# Altium footprint library PHD.PcbLib: 19 footprints (part 2 of 2)
Each footprint in its own frame and in the unit in brackets; x right, y up, seen from the top. Pads: shape width x height; smd on the part's side, far side on the other; paste and mask are expansions set on the pad; w line width, h text height; cw(c..) or ccw(c..) is an arc to the next point about the centre after c.
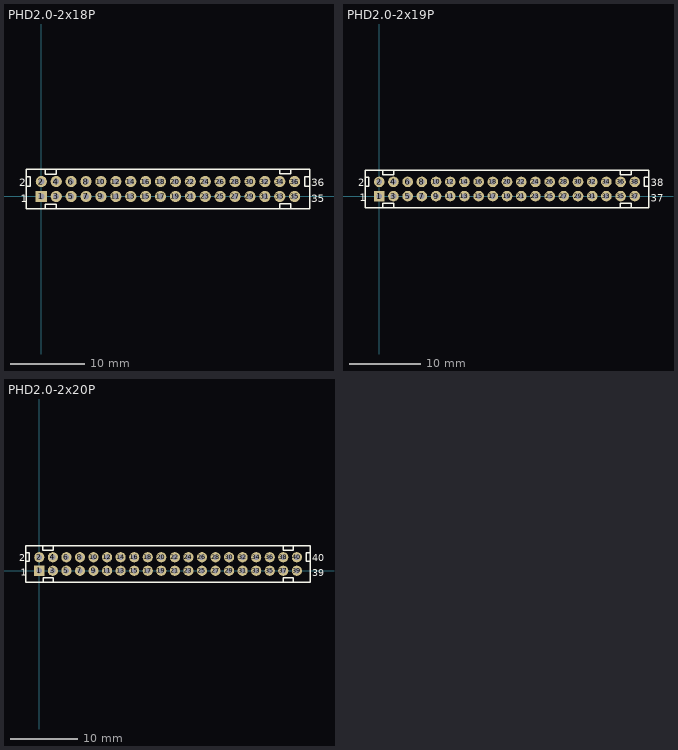
[diagram p1: the footprints below, top view; thin cyan lines are the x and y axes]

## PHD2.0-2x18P [mm]
pads (36):
  rect 1.5x1.5 hole 0.8: 1(0,0)
  round 1.5 hole 0.8: 2(0,2) 3(2,0) 4(2,2) 5(4,0) 6(4,2) 7(6,0) 8(6,2) 9(8,0) 10(8,2) 11(10,0) 12(10,2) 13(12,0) 14(12,2) 15(14,0) 16(14,2) 17(16,0) 18(16,2) 19(18,0) 20(18,2) 21(20,0) 22(20,2) 23(22,0) 24(22,2) 25(24,0) 26(24,2) 27(26,0) 28(26,2) 29(28,0) 30(28,2) 31(30,0) 32(30,2) 33(32,0) 34(32,2) 35(34,0) 36(34,2)
Top Overlay:
  lines w0.2: -2,1.381 -1.492,1.381 -1.492,2.651 -2,2.651 ; 0.5,-1.667 0.5,-1.032 2.024,-1.032 2.024,-1.667 ; 0.5,3.667 0.5,3 2.024,3 2.024,3.667 ; 31.976,-1.667 31.976,-1 33.5,-1 33.5,-1.667 ; 31.976,3.667 31.976,3.032 33.5,3.032 33.5,3.667 ; 36,1.381 35.365,1.381 35.365,2.651 36,2.651 ; -2,-1.667 36,-1.667 36,3.667 -2,3.667 -2,-1.667
  text "36" at 36.254,1.381 h1.02
  text "35" at 36.254,-0.778 h1.02
  text "1" at -2.75,-0.75 h1.02
  text "2" at -2.996,1.381 h1.02
Bottom Overlay:
  lines w0.381: -0.5,1 34.5,1 ; 1,-0.5 1,2.5 ; 3,-0.5 3,2.5 ; 5,-0.5 5,2.5 ; 7,-0.5 7,2.5 ; 9,-0.5 9,2.5 ; 11,-0.5 11,2.5 ; 13,-0.5 13,2.5 ; 15,-0.5 15,2.5 ; 17,-0.5 17,2.5 ; 19,-0.5 19,2.5 ; 21,-0.5 21,2.5 ; 23,-0.5 23,2.5 ; 25,-0.5 25,2.5 ; 27,-0.5 27,2.5 ; 29,-0.5 29,2.5 ; 31,-0.5 31,2.5 ; 33,-0.5 33,2.5
3D body "PHD2.0-LI-2x18P.STEP": height 6.55, standoff -2.75, extent -2,-1.5 36,3.5

## PHD2.0-2x19P [mm]
pads (38):
  rect 1.5x1.5 hole 0.8: 1(0,0)
  round 1.5 hole 0.8: 2(0,2) 3(2,0) 4(2,2) 5(4,0) 6(4,2) 7(6,0) 8(6,2) 9(8,0) 10(8,2) 11(10,0) 12(10,2) 13(12,0) 14(12,2) 15(14,0) 16(14,2) 17(16,0) 18(16,2) 19(18,0) 20(18,2) 21(20,0) 22(20,2) 23(22,0) 24(22,2) 25(24,0) 26(24,2) 27(26,0) 28(26,2) 29(28,0) 30(28,2) 31(30,0) 32(30,2) 33(32,0) 34(32,2) 35(34,0) 36(34,2) 37(36,0) 38(36,2)
Top Overlay:
  lines w0.2: -2,1.381 -1.492,1.381 -1.492,2.651 -2,2.651 ; 0.5,-1.667 0.5,-1.032 2.024,-1.032 2.024,-1.667 ; 0.5,3.667 0.5,3 2.024,3 2.024,3.667 ; 33.976,-1.667 33.976,-1 35.5,-1 35.5,-1.667 ; 33.976,3.667 33.976,3.032 35.5,3.032 35.5,3.667 ; 38,1.381 37.365,1.381 37.365,2.651 38,2.651 ; -2,-1.667 -2,3.667 38,3.667 38,-1.667 -2,-1.667
  text "37" at 38.254,-0.778 h1.02
  text "38" at 38.254,1.381 h1.02
  text "1" at -2.75,-0.75 h1.02
  text "2" at -2.996,1.381 h1.02
Bottom Overlay:
  lines w0.381: -0.5,1 36.5,1 ; 1,-0.5 1,2.5 ; 3,-0.5 3,2.5 ; 5,-0.5 5,2.5 ; 7,-0.5 7,2.5 ; 9,-0.5 9,2.5 ; 11,-0.5 11,2.5 ; 13,-0.5 13,2.5 ; 15,-0.5 15,2.5 ; 17,-0.5 17,2.5 ; 19,-0.5 19,2.5 ; 21,-0.5 21,2.5 ; 23,-0.5 23,2.5 ; 25,-0.5 25,2.5 ; 27,-0.5 27,2.5 ; 29,-0.5 29,2.5 ; 31,-0.5 31,2.5 ; 33,-0.5 33,2.5 ; 35,-0.5 35,2.5
3D body "PHD2.0-LI-2x19P.STEP": height 6.55, standoff -2.75, extent -2,-1.5 38,3.5

## PHD2.0-2x20P [mm]
pads (40):
  rect 1.5x1.5 hole 0.8: 1(0,0)
  round 1.5 hole 0.8: 2(0,2) 3(2,0) 4(2,2) 5(4,0) 6(4,2) 7(6,0) 8(6,2) 9(8,0) 10(8,2) 11(10,0) 12(10,2) 13(12,0) 14(12,2) 15(14,0) 16(14,2) 17(16,0) 18(16,2) 19(18,0) 20(18,2) 21(20,0) 22(20,2) 23(22,0) 24(22,2) 25(24,0) 26(24,2) 27(26,0) 28(26,2) 29(28,0) 30(28,2) 31(30,0) 32(30,2) 33(32,0) 34(32,2) 35(34,0) 36(34,2) 37(36,0) 38(36,2) 39(38,0) 40(38,2)
Top Overlay:
  lines w0.2: -2,1.381 -1.492,1.381 -1.492,2.651 -2,2.651 ; 0.5,3.667 0.5,3 2.024,3 2.024,3.667 ; 0.548,-1.667 0.548,-1.032 2.072,-1.032 2.072,-1.667 ; 35.976,-1.667 35.976,-1 37.5,-1 37.5,-1.667 ; 35.976,3.667 35.976,3.032 37.5,3.032 37.5,3.667 ; 40,1.381 39.365,1.381 39.365,2.651 40,2.651 ; -2,-1.667 40,-1.667 40,3.667 -2,3.667 -2,-1.667
  text "2" at -2.996,1.381 h1.02
  text "1" at -2.75,-0.75 h1.02
  text "40" at 40.254,1.381 h1.02
  text "39" at 40.254,-0.778 h1.02
Bottom Overlay:
  lines w0.381: -0.5,1 38.5,1 ; 1,-0.5 1,2.5 ; 3,-0.5 3,2.5 ; 5,-0.5 5,2.5 ; 7,-0.5 7,2.5 ; 9,-0.5 9,2.5 ; 11,-0.5 11,2.5 ; 13,-0.5 13,2.5 ; 15,-0.5 15,2.5 ; 17,-0.5 17,2.5 ; 19,-0.5 19,2.5 ; 21,-0.5 21,2.5 ; 23,-0.5 23,2.5 ; 25,-0.5 25,2.5 ; 27,-0.5 27,2.5 ; 29,-0.5 29,2.5 ; 31,-0.5 31,2.5 ; 33,-0.5 33,2.5 ; 35,-0.5 35,2.5 ; 37,-0.5 37,2.5
3D body "PHD2.0-LI-2x20P.STEP": height 6.55, standoff -2.75, extent -2,-1.5 40,3.5